# Altium schematic symbol library HDSP-52.SchLib: 1 symbol
Pins are listed as number, name and electrical type; pins without a type are passive.

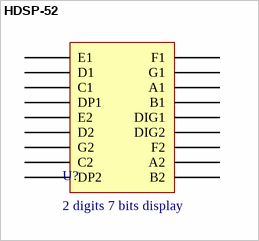
[diagram p0: symbol HDSP-52]

## HDSP-52
designator U?, comment 2 digits 7 bits display
2 digits 7 bits display Green 14.2mm
footprint HDSP-52
pins: 1 E1, 2 D1, 3 C1, 4 DP1, 5 E2, 6 D2, 7 G2, 8 C2, 9 DP2, 10 B2, 11 A2, 12 F2, 13 DIG2, 14 DIG1, 15 B1, 16 A1, 17 G1, 18 F1